# EAGLE library part ATMEGA328P (library CPSS_CPU)
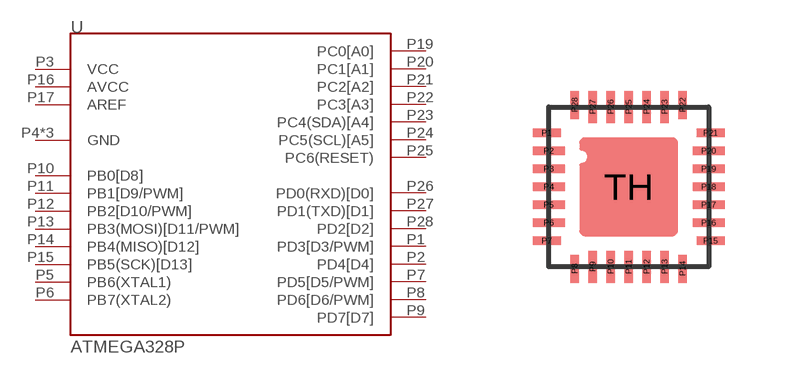
[diagram p2: symbol with the pads of VQFN-28; footprint VQFN-28]

Designator prefix -

## ATMEGA328P  [VQFN-28]
P1  PD3[D3/PWM]
P2  PD4[D4]
P3  VCC
P4  GND
P5  PB6(XTAL1)
P6  PB7(XTAL2)
P7  PD5[D5/PWM]
P8  PD6[D6/PWM]
P9  PD7[D7]
P10  PB0[D8]
P11  PB1[D9/PWM]
P12  PB2[D10/PWM]
P13  PB3(MOSI)[D11/PWM]
P14  PB4(MISO)[D12]
P15  PB5(SCK)[D13]
P16  AVCC
P17  AREF
P18  GND
P19  PC0[A0]
P20  PC1[A1]
P21  PC2[A2]
P22  PC3[A3]
P23  PC4(SDA)[A4]
P24  PC5(SCL)[A5]
P25  PC6(RESET)
P26  PD0(RXD)[D0]
P27  PD1(TXD)[D1]
P28  PD2[D2]
TH  GND

## Footprint VQFN-28 (pad centres in mm)
smd 0.7 x 0.22: P1 -2.05,1.35; P7 -2.05,-1.35; P15 2.05,-1.35; P21 2.05,1.35
smd 0.8 x 0.22: P2 -2,0.9; P3 -2,0.45; P4 -2,0; P5 -2,-0.45; P6 -2,-0.9; P16 2,-0.9; P17 2,-0.45; P18 2,0; P19 2,0.45; P20 2,0.9
smd 0.22 x 0.7: P8 -1.35,-2.05; P14 1.35,-2.05; P22 1.35,2.05; P28 -1.35,2.05
smd 0.22 x 0.8: P9 -0.9,-2; P10 -0.45,-2; P11 0,-2; P12 0.45,-2; P13 0.9,-2; P23 0.9,2; P24 0.45,2; P25 0,2; P26 -0.45,2; P27 -0.9,2
smd 1 x 1: TH 0,0